# Altium schematic symbol library IntLib.SchLib: 1 symbol
Pins are listed as number, name and electrical type; pins without a type are passive.

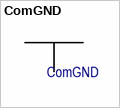
[diagram p0: symbol ComGND]

## ComGND
designator GND?  (net tie, no BOM)
footprint ComGND
pins: 1, 2, 3